# EAGLE library part V__ILC7-4/7L (library ++Bedrahtet)
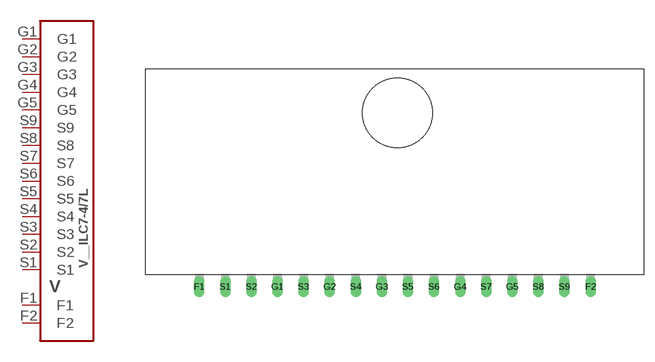
[diagram p42: symbol with the pads of VFD_ILC7-4/7L; footprint VFD_ILC7-4/7L]

Designator prefix V

## V__ILC7-4/7L  [VFD_ILC7-4/7L]
F1  F1
F2  F2
G1  G1
G2  G2
G3  G3
G4  G4
G5  G5
S1  S1
S2  S2
S3  S3
S4  S4
S5  S5
S6  S6
S7  S7
S8  S8
S9  S9

## Footprint VFD_ILC7-4/7L (pad centres in mm)
drill 1 long: F1 0,0; F2 57.15,0; G1 11.43,0; G2 19.05,0; G3 26.67,0; G4 38.1,0; G5 45.72,0; S1 3.81,0; S2 7.62,0; S3 15.24,0; S4 22.86,0; S5 30.48,0; S6 34.29,0; S7 41.91,0; S8 49.53,0; S9 53.34,0